# Altium schematic symbol library MC34063 .SchLib: 1 symbol
Pins are listed as number, name and electrical type; pins without a type are passive.

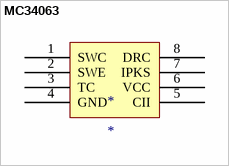
[diagram p0: symbol MC34063]

## MC34063
designator *
footprint MC34063ABD-TR
pins: 1 SWC , 2 SWE, 3 TC, 4 GND, 5  CII, 6 VCC, 7 IPKS, 8 DRC